# Altium footprint library EIA.SO.PcbLib: 20 footprints (part 1 of 2)
Each footprint in its own frame and in the unit in brackets; x right, y up, seen from the top. Pads: shape width x height; smd on the part's side, far side on the other; paste and mask are expansions set on the pad; w line width, h text height; cw(c..) or ccw(c..) is an arc to the next point about the centre after c.
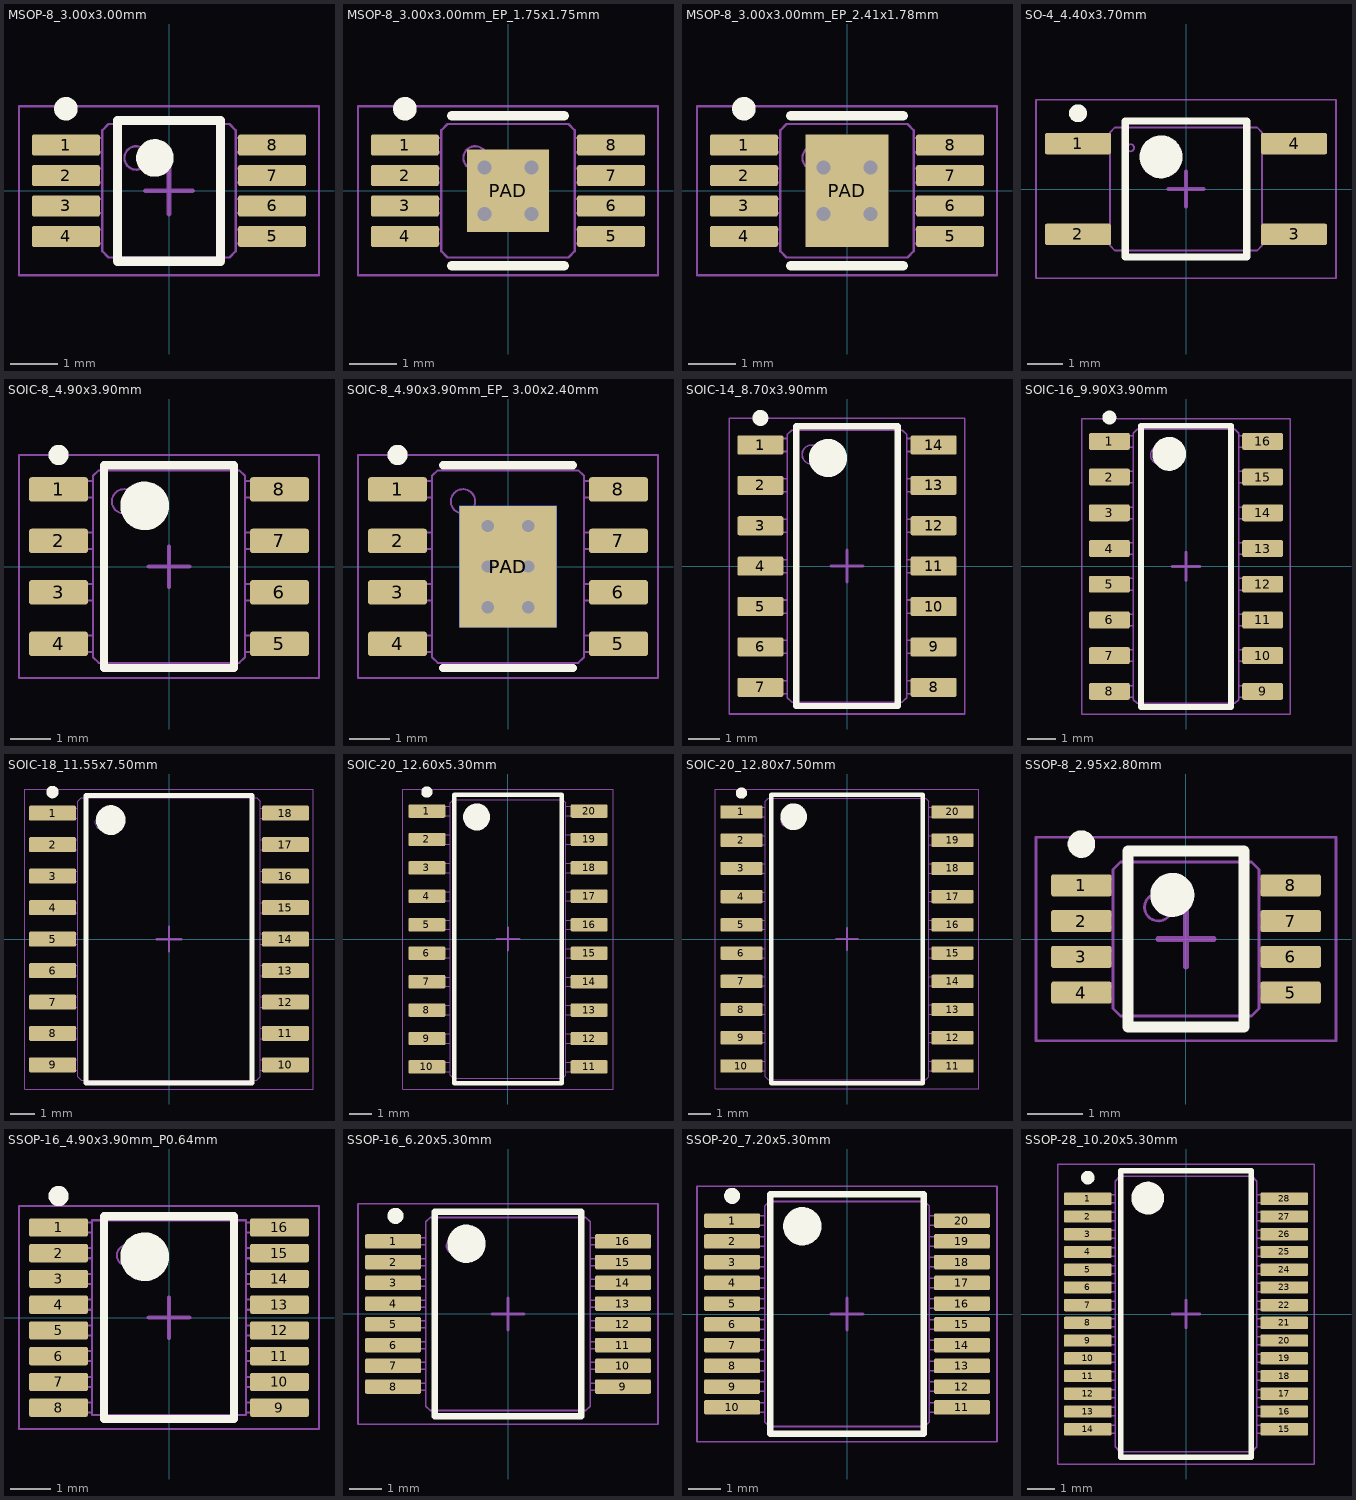
[diagram p0: the footprints below, top view; thin cyan lines are the x and y axes]

## MSOP-8_3.00x3.00mm [mm] "MSOP, 8-Leads, Body 3.00x3.00mm, Pitch 0.65mm, IPC Medium Density"
height 1.1
pads (8):
  rrect20% 1.45x0.45 smd: 1(-2.2,0.975) 2(-2.2,0.325) 3(-2.2,-0.325) 4(-2.2,-0.975) 5(2.2,-0.975) 6(2.2,-0.325) 7(2.2,0.325) 8(2.2,0.975)
Top Overlay:
  circle w0.25: c-2.2,1.75 r0.125
  circle w0.4: c-0.3,0.7 r0.2
  lines w0.2: -1.1,-1.5 -1.1,1.5 1.1,1.5 1.1,-1.5 -1.1,-1.5
Mechanical 1:
  circle w0.05: c-0.701,0.701 r0.25
  lines w0.05: -1.425,-1.125 -2.45,-1.125 -2.45,-0.825 -1.425,-0.825 ; -1.425,-0.475 -2.45,-0.475 -2.45,-0.175 -1.425,-0.175 ; -1.425,0.175 -2.45,0.175 -2.45,0.475 -1.425,0.475 ; -1.425,0.825 -2.45,0.825 -2.45,1.125 -1.425,1.125 ; 1.425,-1.125 2.45,-1.125 2.45,-0.825 1.425,-0.825 ; 1.425,-0.475 2.45,-0.475 2.45,-0.175 1.425,-0.175 ; 1.425,0.175 2.45,0.175 2.45,0.475 1.425,0.475 ; 1.425,0.825 2.45,0.825 2.45,1.125 1.425,1.125 ; -1.425,-1.288 -1.425,1.288 -1.288,1.425 1.288,1.425 1.425,1.288 1.425,-1.288 1.288,-1.425 -1.288,-1.425 -1.425,-1.288
Mechanical 15:
  lines w0.05: -3.2,-1.8 -3.2,1.8 3.2,1.8 3.2,-1.8 -3.2,-1.8
  lines w0.1: -0.5,0 0.5,0 ; 0,-0.5 0,0.5
3D body "MSOP-8_3x3mm_P0.65mm.step": height 0.95, standoff 0, extent -2.45,-1.5 2.45,1.5

## MSOP-8_3.00x3.00mm_EP_1.75x1.75mm [mm] "MSOP, 8-Leads, Body 3.00x3.00mm, Pitch 0.65mm, Thermal Pad 1.75x1.75mm, IPC Medium Density"
height 1.1
pads (9):
  rrect20% 1.45x0.45 smd: 1(-2.2,0.975) 2(-2.2,0.325) 3(-2.2,-0.325) 4(-2.2,-0.975) 5(2.2,-0.975) 6(2.2,-0.325) 7(2.2,0.325) 8(2.2,0.975)
  rect 1.75x1.75 smd: PAD(0,0)
via 0.5,0.5 diameter 0.6 hole 0.3
via -0.5,0.5 diameter 0.6 hole 0.3
via -0.5,-0.5 diameter 0.6 hole 0.3
via 0.5,-0.5 diameter 0.6 hole 0.3
Top Overlay:
  circle w0.25: c-2.2,1.75 r0.125
  lines w0.2: -1.2,-1.6 1.2,-1.6 ; -1.2,1.6 1.2,1.6
Mechanical 1:
  circle w0.05: c-0.701,0.701 r0.25
  lines w0.05: -1.425,-1.125 -2.45,-1.125 -2.45,-0.825 -1.425,-0.825 ; -1.425,-0.475 -2.45,-0.475 -2.45,-0.175 -1.425,-0.175 ; -1.425,0.175 -2.45,0.175 -2.45,0.475 -1.425,0.475 ; -1.425,0.825 -2.45,0.825 -2.45,1.125 -1.425,1.125 ; 1.425,-1.125 2.45,-1.125 2.45,-0.825 1.425,-0.825 ; 1.425,-0.475 2.45,-0.475 2.45,-0.175 1.425,-0.175 ; 1.425,0.175 2.45,0.175 2.45,0.475 1.425,0.475 ; 1.425,0.825 2.45,0.825 2.45,1.125 1.425,1.125 ; -1.425,-1.288 -1.288,-1.425 1.288,-1.425 1.425,-1.288 1.425,1.288 1.288,1.425 -1.288,1.425 -1.425,1.288 -1.425,-1.288
Mechanical 15:
  lines w0.05: -3.2,-1.8 3.2,-1.8 3.2,1.8 -3.2,1.8 -3.2,-1.8
  lines w0.1: -0.5,0 0.5,0 ; 0,-0.5 0,0.5
3D body "MSOP-8-1EP_3x3mm_P0.65mm_EP1.68x1.88mm.step": height 0.95, standoff 0, extent -2.45,-1.5 2.45,1.5

## MSOP-8_3.00x3.00mm_EP_2.41x1.78mm [mm] "MSOP, 8-Leads, Body 3.00x3.00mm, Pitch 0.65mm, Thermal Pad 2.41x1.78mm, IPC Medium Density"
height 1.1
pads (9):
  rrect20% 1.45x0.45 smd: 1(-2.2,0.975) 2(-2.2,0.325) 3(-2.2,-0.325) 4(-2.2,-0.975) 5(2.2,-0.975) 6(2.2,-0.325) 7(2.2,0.325) 8(2.2,0.975)
  rect 1.78x2.41 smd: PAD(0,0)
via 0.5,0.5 diameter 0.6 hole 0.3
via -0.5,0.5 diameter 0.6 hole 0.3
via -0.5,-0.5 diameter 0.6 hole 0.3
via 0.5,-0.5 diameter 0.6 hole 0.3
Top Overlay:
  circle w0.25: c-2.2,1.75 r0.125
  lines w0.2: -1.2,-1.6 1.2,-1.6 ; -1.2,1.6 1.2,1.6
Mechanical 1:
  circle w0.05: c-0.701,0.701 r0.25
  lines w0.05: -1.425,-1.125 -2.45,-1.125 -2.45,-0.825 -1.425,-0.825 ; -1.425,-0.475 -2.45,-0.475 -2.45,-0.175 -1.425,-0.175 ; -1.425,0.175 -2.45,0.175 -2.45,0.475 -1.425,0.475 ; -1.425,0.825 -2.45,0.825 -2.45,1.125 -1.425,1.125 ; 1.425,-1.125 2.45,-1.125 2.45,-0.825 1.425,-0.825 ; 1.425,-0.475 2.45,-0.475 2.45,-0.175 1.425,-0.175 ; 1.425,0.175 2.45,0.175 2.45,0.475 1.425,0.475 ; 1.425,0.825 2.45,0.825 2.45,1.125 1.425,1.125 ; -1.425,-1.288 -1.288,-1.425 1.288,-1.425 1.425,-1.288 1.425,1.288 1.288,1.425 -1.288,1.425 -1.425,1.288 -1.425,-1.288
Mechanical 15:
  lines w0.05: -3.2,-1.8 3.2,-1.8 3.2,1.8 -3.2,1.8 -3.2,-1.8
  lines w0.1: -0.5,0 0.5,0 ; 0,-0.5 0,0.5
3D body "MSOP-8-1EP_3x3mm_P0.65mm_EP1.68x1.88mm.step": height 0.95, standoff 0, extent -2.45,-1.5 2.45,1.5

## SO-4_4.40x3.70mm [mm] "SO, 4-Leads, Body 4.40x3.70mm, Pitch 2.54mm, IPC Medium Density"
height 2.31
pads (4):
  rrect20% 1.85x0.6 smd: 1(-3.025,1.27) 2(-3.025,-1.27) 3(3.025,-1.27) 4(3.025,1.27)
Top Overlay:
  circle w0.25: c-3.025,2.12 r0.125
  circle w0.6: c-0.7,0.9 r0.3
  lines w0.2: -1.7,-1.9 -1.7,1.9 1.7,1.9 1.7,-1.9 -1.7,-1.9
Mechanical 1:
  circle w0.05: c-1.554,1.154 r0.1
  lines w0.05: -2.125,-1.495 -3.65,-1.495 -3.65,-1.045 -2.125,-1.045 ; -2.125,1.045 -3.65,1.045 -3.65,1.495 -2.125,1.495 ; 2.125,-1.495 3.65,-1.495 3.65,-1.045 2.125,-1.045 ; 2.125,1.045 3.65,1.045 3.65,1.495 2.125,1.495 ; -2.125,-1.587 -2.125,1.587 -1.987,1.725 1.987,1.725 2.125,1.587 2.125,-1.587 1.987,-1.725 -1.987,-1.725 -2.125,-1.587
Mechanical 15:
  lines w0.05: -4.2,-2.5 -4.2,2.5 4.2,2.5 4.2,-2.5 -4.2,-2.5
  lines w0.1: -0.5,0 0.5,0 ; 0,-0.5 0,0.5
3D body "SO-4_4.4x3.6mm_P2.54mm.step": height 1.1, standoff 0, extent -3.65,-1.8 3.65,1.8

## SOIC-8_4.90x3.90mm [mm] "SOIC, 8-Leads, Body 4.90x3.90mm, Pitch 1.27mm, IPC Medium Density"
height 1.75
pads (8):
  rrect20% 1.45x0.6 smd: 1(-2.725,1.905) 2(-2.725,0.635) 3(-2.725,-0.635) 4(-2.725,-1.905) 5(2.725,-1.905) 6(2.725,-0.635) 7(2.725,0.635) 8(2.725,1.905)
Top Overlay:
  circle w0.25: c-2.725,2.755 r0.125
  circle w0.6: c-0.6,1.5 r0.3
  lines w0.2: -1.6,-2.5 -1.6,2.5 1.6,2.5 1.6,-2.5 -1.6,-2.5
Mechanical 1:
  circle w0.05: c-1.11,1.61 r0.3
  lines w0.05: -1.875,-2.11 -3,-2.11 -3,-1.7 -1.875,-1.7 ; -1.875,-0.84 -3,-0.84 -3,-0.43 -1.875,-0.43 ; -1.875,0.43 -3,0.43 -3,0.84 -1.875,0.84 ; -1.875,1.7 -3,1.7 -3,2.11 -1.875,2.11 ; 1.875,-2.11 3,-2.11 3,-1.7 1.875,-1.7 ; 1.875,-0.84 3,-0.84 3,-0.43 1.875,-0.43 ; 1.875,0.43 3,0.43 3,0.84 1.875,0.84 ; 1.875,1.7 3,1.7 3,2.11 1.875,2.11 ; -1.875,-2.238 -1.875,2.238 -1.737,2.375 1.737,2.375 1.875,2.238 1.875,-2.238 1.737,-2.375 -1.737,-2.375 -1.875,-2.238
Mechanical 15:
  lines w0.05: -3.7,-2.75 -3.7,2.75 3.7,2.75 3.7,-2.75 -3.7,-2.75
  lines w0.1: -0.5,0 0.5,0 ; 0,-0.5 0,0.5
3D body "SOIC-8_3.9x4.9mm_P1.27mm.step": height 1.75, standoff 0, extent -3,-2.45 3,2.45

## SOIC-8_4.90x3.90mm_EP_ 3.00x2.40mm [mm] "SOIC, 8-Leads, Body 4.90x3.90mm, Pitch 1.27mm, Thermal Pad 3.00x2.40mm, IPC Medium Density"
height 1.75
pads (10):
  rrect20% 1.45x0.6 smd: 1(-2.725,1.905) 2(-2.725,0.635) 3(-2.725,-0.635) 4(-2.725,-1.905) 5(2.725,-1.905) 6(2.725,-0.635) 7(2.725,0.635) 8(2.725,1.905)
  rect 2.4x3 smd: PAD(0,0)
  rect 2.4x3 smd far side paste-2539.97: PAD(0,0)
via -0.5,1 diameter 0.6 hole 0.3
via -0.5,0 diameter 0.6 hole 0.3
via -0.5,-1 diameter 0.6 hole 0.3
via 0.5,-1 diameter 0.6 hole 0.3
via 0.5,1 diameter 0.6 hole 0.3
via 0.5,0 diameter 0.6 hole 0.3
Top Overlay:
  circle w0.25: c-2.725,2.755 r0.125
  lines w0.2: -1.6,-2.5 1.6,-2.5 ; -1.6,2.5 1.6,2.5
Mechanical 1:
  circle w0.05: c-1.11,1.61 r0.3
  lines w0.05: -1.875,-2.11 -3,-2.11 -3,-1.7 -1.875,-1.7 ; -1.875,-0.84 -3,-0.84 -3,-0.43 -1.875,-0.43 ; -1.875,0.43 -3,0.43 -3,0.84 -1.875,0.84 ; -1.875,1.7 -3,1.7 -3,2.11 -1.875,2.11 ; 1.875,-2.11 3,-2.11 3,-1.7 1.875,-1.7 ; 1.875,-0.84 3,-0.84 3,-0.43 1.875,-0.43 ; 1.875,0.43 3,0.43 3,0.84 1.875,0.84 ; 1.875,1.7 3,1.7 3,2.11 1.875,2.11 ; -1.875,-2.238 -1.875,2.238 -1.737,2.375 1.737,2.375 1.875,2.238 1.875,-2.238 1.737,-2.375 -1.737,-2.375 -1.875,-2.238
Mechanical 15:
  lines w0.05: -3.7,-2.75 -3.7,2.75 3.7,2.75 3.7,-2.75 -3.7,-2.75
  lines w0.1: -0.5,0 0.5,0 ; 0,-0.5 0,0.5
3D body "SOIC-8-1EP_3.9x4.9mm_P1.27mm_EP2.35x2.35mm.step": height 1.75, standoff 0, extent -3,-2.45 3,2.45

## SOIC-14_8.70x3.90mm [mm] "SOIC 14-Leads, Body 8.70x3.90mm, Pitch 1.27mm, IPC Medium Density"
height 1.75
pads (14):
  rrect20% 1.45x0.6 smd: 1(-2.725,3.81) 2(-2.725,2.54) 3(-2.725,1.27) 4(-2.725,0) 5(-2.725,-1.27) 6(-2.725,-2.54) 7(-2.725,-3.81) 8(2.725,-3.81) 9(2.725,-2.54) 10(2.725,-1.27) 11(2.725,0) 12(2.725,1.27) 13(2.725,2.54) 14(2.725,3.81)
Top Overlay:
  circle w0.25: c-2.725,4.66 r0.125
  circle w0.6: c-0.6,3.4 r0.3
  lines w0.2: -1.6,-4.4 1.6,-4.4 1.6,4.4 -1.6,4.4 -1.6,-4.4
Mechanical 1:
  circle w0.05: c-1.11,3.51 r0.3
  lines w0.05: -1.875,-4.015 -3,-4.015 -3,-3.605 -1.875,-3.605 ; -1.875,-2.745 -3,-2.745 -3,-2.335 -1.875,-2.335 ; -1.875,-1.475 -3,-1.475 -3,-1.065 -1.875,-1.065 ; -1.875,-0.205 -3,-0.205 -3,0.205 -1.875,0.205 ; -1.875,1.065 -3,1.065 -3,1.475 -1.875,1.475 ; -1.875,2.335 -3,2.335 -3,2.745 -1.875,2.745 ; -1.875,3.605 -3,3.605 -3,4.015 -1.875,4.015 ; 1.875,-4.015 3,-4.015 3,-3.605 1.875,-3.605 ; 1.875,-2.745 3,-2.745 3,-2.335 1.875,-2.335 ; 1.875,-1.475 3,-1.475 3,-1.065 1.875,-1.065 ; 1.875,-0.205 3,-0.205 3,0.205 1.875,0.205 ; 1.875,1.065 3,1.065 3,1.475 1.875,1.475 ; 1.875,2.335 3,2.335 3,2.745 1.875,2.745 ; 1.875,3.605 3,3.605 3,4.015 1.875,4.015 ; -1.875,-4.137 -1.737,-4.275 1.737,-4.275 1.875,-4.137 1.875,4.137 1.737,4.275 -1.737,4.275 -1.875,4.137 -1.875,-4.137
Mechanical 15:
  lines w0.05: -3.7,-4.65 -3.7,4.65 3.7,4.65 3.7,-4.65 -3.7,-4.65
  lines w0.1: -0.5,0 0.5,0 ; 0,-0.5 0,0.5
3D body "SOIC-14_3.9x8.7mm_P1.27mm.step": height 1.75, standoff 0, extent -3,-4.35 3,4.35

## SOIC-16_9.90X3.90mm [mm] "SOIC, 16-Leads, Body 9.90x3.90mm, Pitch 1.27mm, IPC Medium Density"
height 1.75
pads (16):
  rrect20% 1.45x0.6 smd: 1(-2.725,4.445) 2(-2.725,3.175) 3(-2.725,1.905) 4(-2.725,0.635) 5(-2.725,-0.635) 6(-2.725,-1.905) 7(-2.725,-3.175) 8(-2.725,-4.445) 9(2.725,-4.445) 10(2.725,-3.175) 11(2.725,-1.905) 12(2.725,-0.635) 13(2.725,0.635) 14(2.725,1.905) 15(2.725,3.175) 16(2.725,4.445)
Top Overlay:
  circle w0.25: c-2.725,5.295 r0.125
  circle w0.6: c-0.6,4 r0.3
  lines w0.2: -1.6,-5 -1.6,5 1.6,5 1.6,-5 -1.6,-5
Mechanical 1:
  circle w0.05: c-0.96,3.96 r0.3
  lines w0.05: -1.875,-4.65 -3,-4.65 -3,-4.24 -1.875,-4.24 ; -1.875,-3.38 -3,-3.38 -3,-2.97 -1.875,-2.97 ; -1.875,-2.11 -3,-2.11 -3,-1.7 -1.875,-1.7 ; -1.875,-0.84 -3,-0.84 -3,-0.43 -1.875,-0.43 ; -1.875,0.43 -3,0.43 -3,0.84 -1.875,0.84 ; -1.875,1.7 -3,1.7 -3,2.11 -1.875,2.11 ; -1.875,2.97 -3,2.97 -3,3.38 -1.875,3.38 ; -1.875,4.24 -3,4.24 -3,4.65 -1.875,4.65 ; 1.875,-4.65 3,-4.65 3,-4.24 1.875,-4.24 ; 1.875,-3.38 3,-3.38 3,-2.97 1.875,-2.97 ; 1.875,-2.11 3,-2.11 3,-1.7 1.875,-1.7 ; 1.875,-0.84 3,-0.84 3,-0.43 1.875,-0.43 ; 1.875,0.43 3,0.43 3,0.84 1.875,0.84 ; 1.875,1.7 3,1.7 3,2.11 1.875,2.11 ; 1.875,2.97 3,2.97 3,3.38 1.875,3.38 ; 1.875,4.24 3,4.24 3,4.65 1.875,4.65 ; -1.875,-4.737 -1.737,-4.875 1.737,-4.875 1.875,-4.737 1.875,4.737 1.737,4.875 -1.737,4.875 -1.875,4.737 -1.875,-4.737
Mechanical 15:
  lines w0.05: -3.7,-5.25 -3.7,5.25 3.7,5.25 3.7,-5.25 -3.7,-5.25
  lines w0.1: -0.5,0 0.5,0 ; 0,-0.5 0,0.5
3D body "SOIC-16_3.9x9.9mm_P1.27mm.step": height 1.75, standoff 0, extent -3,-4.95 3,4.95

## SOIC-18_11.55x7.50mm [mm] "SOIC, 18-Leads, Body 11.55x7.50mm, Pitch 1.27mm, IPC Medium Density"
height 2.65
pads (18):
  rrect20% 1.9x0.6 smd: 1(-4.7,5.08) 2(-4.7,3.81) 3(-4.7,2.54) 4(-4.7,1.27) 5(-4.7,0) 6(-4.7,-1.27) 7(-4.7,-2.54) 8(-4.7,-3.81) 9(-4.7,-5.08) 10(4.7,-5.08) 11(4.7,-3.81) 12(4.7,-2.54) 13(4.7,-1.27) 14(4.7,0) 15(4.7,1.27) 16(4.7,2.54) 17(4.7,3.81) 18(4.7,5.08)
Top Overlay:
  circle w0.6: c-2.35,4.8 r0.3
  circle w0.25: c-4.7,5.93 r0.125
  lines w0.2: -3.35,-5.8 3.35,-5.8 3.35,5.8 -3.35,5.8 -3.35,-5.8
Mechanical 1:
  circle w0.05: c-2.689,4.714 r0.3
  lines w0.05: -3.675,-5.285 -5.15,-5.285 -5.15,-4.875 -3.675,-4.875 ; -3.675,-4.015 -5.15,-4.015 -5.15,-3.605 -3.675,-3.605 ; -3.675,-2.745 -5.15,-2.745 -5.15,-2.335 -3.675,-2.335 ; -3.675,-1.475 -5.15,-1.475 -5.15,-1.065 -3.675,-1.065 ; -3.675,-0.205 -5.15,-0.205 -5.15,0.205 -3.675,0.205 ; -3.675,1.065 -5.15,1.065 -5.15,1.475 -3.675,1.475 ; -3.675,2.335 -5.15,2.335 -5.15,2.745 -3.675,2.745 ; -3.675,3.605 -5.15,3.605 -5.15,4.015 -3.675,4.015 ; -3.675,4.875 -5.15,4.875 -5.15,5.285 -3.675,5.285 ; 3.675,-5.285 5.15,-5.285 5.15,-4.875 3.675,-4.875 ; 3.675,-4.015 5.15,-4.015 5.15,-3.605 3.675,-3.605 ; 3.675,-2.745 5.15,-2.745 5.15,-2.335 3.675,-2.335 ; 3.675,-1.475 5.15,-1.475 5.15,-1.065 3.675,-1.065 ; 3.675,-0.205 5.15,-0.205 5.15,0.205 3.675,0.205 ; 3.675,1.065 5.15,1.065 5.15,1.475 3.675,1.475 ; 3.675,2.335 5.15,2.335 5.15,2.745 3.675,2.745 ; 3.675,3.605 5.15,3.605 5.15,4.015 3.675,4.015 ; 3.675,4.875 5.15,4.875 5.15,5.285 3.675,5.285 ; -3.675,-5.563 -3.675,5.563 -3.538,5.7 3.538,5.7 3.675,5.563 3.675,-5.563 3.538,-5.7 -3.538,-5.7 -3.675,-5.563
Mechanical 15:
  lines w0.05: -5.825,-6.05 5.825,-6.05 5.825,6.05 -5.825,6.05 -5.825,-6.05
  lines w0.1: -0.5,0 0.5,0 ; 0,-0.5 0,0.5
3D body "SOIC-18W_7.5x11.6mm_P1.27mm.step": height 2.75, standoff 0, extent -5.15,-5.775 5.15,5.775

## SOIC-20_12.60x5.30mm [mm] "SOIC, 20-Leads, Body 12.60x5.30mm, Pitch 1.27mm, IPC Medium Density"
height 2
pads (20):
  rrect20% 1.65x0.6 smd: 1(-3.625,5.715) 2(-3.625,4.445) 3(-3.625,3.175) 4(-3.625,1.905) 5(-3.625,0.635) 6(-3.625,-0.635) 7(-3.625,-1.905) 8(-3.625,-3.175) 9(-3.625,-4.445) 10(-3.625,-5.715) 11(3.625,-5.715) 12(3.625,-4.445) 13(3.625,-3.175) 14(3.625,-1.905) 15(3.625,-0.635) 16(3.625,0.635) 17(3.625,1.905) 18(3.625,3.175) 19(3.625,4.445) 20(3.625,5.715)
Top Overlay:
  circle w0.6: c-1.4,5.45 r0.3
  circle w0.25: c-3.625,6.565 r0.125
  lines w0.2: -2.4,-6.45 2.4,-6.45 2.4,6.45 -2.4,6.45 -2.4,-6.45
Mechanical 1:
  circle w0.05: c-1.66,5.31 r0.3
  lines w0.05: -2.575,-5.92 -3.7,-5.92 -3.7,-5.51 -2.575,-5.51 ; -2.575,-4.65 -3.7,-4.65 -3.7,-4.24 -2.575,-4.24 ; -2.575,-3.38 -3.7,-3.38 -3.7,-2.97 -2.575,-2.97 ; -2.575,-2.11 -3.7,-2.11 -3.7,-1.7 -2.575,-1.7 ; -2.575,-0.84 -3.7,-0.84 -3.7,-0.43 -2.575,-0.43 ; -2.575,0.43 -3.7,0.43 -3.7,0.84 -2.575,0.84 ; -2.575,1.7 -3.7,1.7 -3.7,2.11 -2.575,2.11 ; -2.575,2.97 -3.7,2.97 -3.7,3.38 -2.575,3.38 ; -2.575,4.24 -3.7,4.24 -3.7,4.65 -2.575,4.65 ; -2.575,5.51 -3.7,5.51 -3.7,5.92 -2.575,5.92 ; 2.575,-5.92 3.7,-5.92 3.7,-5.51 2.575,-5.51 ; 2.575,-4.65 3.7,-4.65 3.7,-4.24 2.575,-4.24 ; 2.575,-3.38 3.7,-3.38 3.7,-2.97 2.575,-2.97 ; 2.575,-2.11 3.7,-2.11 3.7,-1.7 2.575,-1.7 ; 2.575,-0.84 3.7,-0.84 3.7,-0.43 2.575,-0.43 ; 2.575,0.43 3.7,0.43 3.7,0.84 2.575,0.84 ; 2.575,1.7 3.7,1.7 3.7,2.11 2.575,2.11 ; 2.575,2.97 3.7,2.97 3.7,3.38 2.575,3.38 ; 2.575,4.24 3.7,4.24 3.7,4.65 2.575,4.65 ; 2.575,5.51 3.7,5.51 3.7,5.92 2.575,5.92 ; -2.575,-6.088 -2.575,6.088 -2.438,6.225 2.438,6.225 2.575,6.088 2.575,-6.088 2.438,-6.225 -2.438,-6.225 -2.575,-6.088
Mechanical 15:
  lines w0.05: -4.7,-6.7 4.7,-6.7 4.7,6.7 -4.7,6.7 -4.7,-6.7
  lines w0.1: -0.5,0 0.5,0 ; 0,-0.5 0,0.5
3D body "SOIC-20_5.3x12.6mm_P1.27mm.STEP": height 1.75, standoff 0, extent -3.7,-6.3 3.7,6.3

## SOIC-20_12.80x7.50mm [mm] "SOIC, 20-Leads, Body 12.80x7.50mm, Pitch 1.27mm, IPC Medium Density"
height 2.65
pads (20):
  rrect20% 1.9x0.6 smd: 1(-4.75,5.715) 2(-4.75,4.445) 3(-4.75,3.175) 4(-4.75,1.905) 5(-4.75,0.635) 6(-4.75,-0.635) 7(-4.75,-1.905) 8(-4.75,-3.175) 9(-4.75,-4.445) 10(-4.75,-5.715) 11(4.75,-5.715) 12(4.75,-4.445) 13(4.75,-3.175) 14(4.75,-1.905) 15(4.75,-0.635) 16(4.75,0.635) 17(4.75,1.905) 18(4.75,3.175) 19(4.75,4.445) 20(4.75,5.715)
Top Overlay:
  circle w0.6: c-2.4,5.5 r0.3
  circle w0.25: c-4.75,6.565 r0.125
  lines w0.2: -3.4,-6.5 3.4,-6.5 3.4,6.5 -3.4,6.5 -3.4,-6.5
Mechanical 1:
  circle w0.025: c-2.689,5.339 r0.3
  lines w0.05: -3.675,-5.92 -5.15,-5.92 -5.15,-5.51 -3.675,-5.51 ; -3.675,-4.65 -5.15,-4.65 -5.15,-4.24 -3.675,-4.24 ; -3.675,-3.38 -5.15,-3.38 -5.15,-2.97 -3.675,-2.97 ; -3.675,-2.11 -5.15,-2.11 -5.15,-1.7 -3.675,-1.7 ; -3.675,-0.84 -5.15,-0.84 -5.15,-0.43 -3.675,-0.43 ; -3.675,0.43 -5.15,0.43 -5.15,0.84 -3.675,0.84 ; -3.675,1.7 -5.15,1.7 -5.15,2.11 -3.675,2.11 ; -3.675,2.97 -5.15,2.97 -5.15,3.38 -3.675,3.38 ; -3.675,4.24 -5.15,4.24 -5.15,4.65 -3.675,4.65 ; -3.675,5.51 -5.15,5.51 -5.15,5.92 -3.675,5.92 ; 3.675,-5.92 5.15,-5.92 5.15,-5.51 3.675,-5.51 ; 3.675,-4.65 5.15,-4.65 5.15,-4.24 3.675,-4.24 ; 3.675,-3.38 5.15,-3.38 5.15,-2.97 3.675,-2.97 ; 3.675,-2.11 5.15,-2.11 5.15,-1.7 3.675,-1.7 ; 3.675,-0.84 5.15,-0.84 5.15,-0.43 3.675,-0.43 ; 3.675,0.43 5.15,0.43 5.15,0.84 3.675,0.84 ; 3.675,1.7 5.15,1.7 5.15,2.11 3.675,2.11 ; 3.675,2.97 5.15,2.97 5.15,3.38 3.675,3.38 ; 3.675,4.24 5.15,4.24 5.15,4.65 3.675,4.65 ; 3.675,5.51 5.15,5.51 5.15,5.92 3.675,5.92 ; -3.675,-6.188 -3.675,6.188 -3.538,6.325 3.538,6.325 3.675,6.188 3.675,-6.188 3.538,-6.325 -3.538,-6.325 -3.675,-6.188
Mechanical 15:
  lines w0.05: -5.925,-6.75 5.925,-6.75 5.925,6.75 -5.925,6.75 -5.925,-6.75
  lines w0.1: -0.5,0 0.5,0 ; 0,-0.5 0,0.5
3D body "SOIC-20W_7.5x12.8mm_P1.27mm.step": height 2.75, standoff 0, extent -5.15,-6.4 5.15,6.4

## SSOP-8_2.95x2.80mm [mm] "SSOP, 8-Leads, Body 2.95x2.80mm, Pitch 0.65mm, IPC Medium Density"
height 1.3
pads (8):
  rrect20% 1.1x0.4 smd: 1(-1.9,0.975) 2(-1.9,0.325) 3(-1.9,-0.325) 4(-1.9,-0.975) 5(1.9,-0.975) 6(1.9,-0.325) 7(1.9,0.325) 8(1.9,0.975)
Top Overlay:
  circle w0.25: c-1.9,1.725 r0.125
  circle w0.4: c-0.25,0.8 r0.2
  lines w0.2: -1.05,-1.6 -1.05,1.6 1.05,1.6 1.05,-1.6 -1.05,-1.6
Mechanical 1:
  circle w0.05: c-0.503,0.578 r0.25
  lines w0.05: -1.325,-1.085 -2,-1.085 -2,-0.865 -1.325,-0.865 ; -1.325,-0.435 -2,-0.435 -2,-0.215 -1.325,-0.215 ; -1.325,0.215 -2,0.215 -2,0.435 -1.325,0.435 ; -1.325,0.865 -2,0.865 -2,1.085 -1.325,1.085 ; 1.325,-1.085 2,-1.085 2,-0.865 1.325,-0.865 ; 1.325,-0.435 2,-0.435 2,-0.215 1.325,-0.215 ; 1.325,0.215 2,0.215 2,0.435 1.325,0.435 ; 1.325,0.865 2,0.865 2,1.085 1.325,1.085 ; -1.325,-1.262 -1.188,-1.4 1.188,-1.4 1.325,-1.262 1.325,1.262 1.188,1.4 -1.188,1.4 -1.325,1.262 -1.325,-1.262
Mechanical 15:
  lines w0.05: -2.725,-1.85 -2.725,1.85 2.725,1.85 2.725,-1.85 -2.725,-1.85
  lines w0.1: -0.5,0 0.5,0 ; 0,-0.5 0,0.5
3D body "SSOP-8_2.95x2.8mm_P0.65mm.step": height 1.35, standoff 0, extent -2,-1.475 2,1.475

## SSOP-16_4.90x3.90mm_P0.64mm [mm] "SSOP, 16-Leads, Body 4.90x3.90mm, Pitch 0.64mm, IPC Medium Density"
height 1.75
pads (16):
  rrect20% 1.45x0.45 smd: 1(-2.725,2.222) 2(-2.725,1.587) 3(-2.725,0.953) 4(-2.725,0.318) 5(-2.725,-0.318) 6(-2.725,-0.953) 7(-2.725,-1.587) 8(-2.725,-2.222) 9(2.725,-2.222) 10(2.725,-1.587) 11(2.725,-0.953) 12(2.725,-0.318) 13(2.725,0.318) 14(2.725,0.953) 15(2.725,1.587) 16(2.725,2.222)
Top Overlay:
  circle w0.25: c-2.725,2.997 r0.125
  circle w0.6: c-0.6,1.5 r0.3
  lines w0.2: -1.6,-2.5 -1.6,2.5 1.6,2.5 1.6,-2.5 -1.6,-2.5
Mechanical 1:
  circle w0.05: c-1.035,1.535 r0.25
  lines w0.05: -1.9,-2.348 -3,-2.348 -3,-2.097 -1.9,-2.097 ; -1.9,-1.713 -3,-1.713 -3,-1.462 -1.9,-1.462 ; -1.9,-1.078 -3,-1.078 -3,-0.827 -1.9,-0.827 ; -1.9,-0.443 -3,-0.443 -3,-0.192 -1.9,-0.192 ; -1.9,0.192 -3,0.192 -3,0.443 -1.9,0.443 ; -1.9,0.827 -3,0.827 -3,1.078 -1.9,1.078 ; -1.9,1.462 -3,1.462 -3,1.713 -1.9,1.713 ; -1.9,2.097 -3,2.097 -3,2.348 -1.9,2.348 ; 1.9,-2.348 3,-2.348 3,-2.097 1.9,-2.097 ; 1.9,-1.713 3,-1.713 3,-1.462 1.9,-1.462 ; 1.9,-1.078 3,-1.078 3,-0.827 1.9,-0.827 ; 1.9,-0.443 3,-0.443 3,-0.192 1.9,-0.192 ; 1.9,0.192 3,0.192 3,0.443 1.9,0.443 ; 1.9,0.827 3,0.827 3,1.078 1.9,1.078 ; 1.9,1.462 3,1.462 3,1.713 1.9,1.713 ; 1.9,2.097 3,2.097 3,2.348 1.9,2.348 ; -1.9,-2.4 1.9,-2.4 1.9,2.4 -1.9,2.4 -1.9,-2.4
Mechanical 15:
  lines w0.05: -3.7,-2.75 -3.7,2.75 3.7,2.75 3.7,-2.75 -3.7,-2.75
  lines w0.1: -0.5,0 0.5,0 ; 0,-0.5 0,0.5
3D body "SSOP-16_3.9x4.9mm_P0.635mm.step": height 1.85, standoff 0, extent -3,-2.45 3,2.45

## SSOP-16_6.20x5.30mm [mm] "SSOP, 16-Leads, Body 6.20x5.30mm, Pitch 0.65mm, IPC Medium Density"
height 2
pads (16):
  rrect20% 1.75x0.45 smd: 1(-3.6,2.275) 2(-3.6,1.625) 3(-3.6,0.975) 4(-3.6,0.325) 5(-3.6,-0.325) 6(-3.6,-0.975) 7(-3.6,-1.625) 8(-3.6,-2.275) 9(3.6,-2.275) 10(3.6,-1.625) 11(3.6,-0.975) 12(3.6,-0.325) 13(3.6,0.325) 14(3.6,0.975) 15(3.6,1.625) 16(3.6,2.275)
Top Overlay:
  circle w0.25: c-3.525,3.075 r0.125
  circle w0.6: c-1.3,2.2 r0.3
  lines w0.2: -2.3,-3.2 -2.3,3.2 2.3,3.2 2.3,-3.2 -2.3,-3.2
Mechanical 1:
  circle w0.05: c-1.681,2.131 r0.25
  lines w0.05: -2.575,-2.385 -3.9,-2.385 -3.9,-2.165 -2.575,-2.165 ; -2.575,-1.735 -3.9,-1.735 -3.9,-1.515 -2.575,-1.515 ; -2.575,-1.085 -3.9,-1.085 -3.9,-0.865 -2.575,-0.865 ; -2.575,-0.435 -3.9,-0.435 -3.9,-0.215 -2.575,-0.215 ; -2.575,0.215 -3.9,0.215 -3.9,0.435 -2.575,0.435 ; -2.575,0.865 -3.9,0.865 -3.9,1.085 -2.575,1.085 ; -2.575,1.515 -3.9,1.515 -3.9,1.735 -2.575,1.735 ; -2.575,2.165 -3.9,2.165 -3.9,2.385 -2.575,2.385 ; 2.575,-2.385 3.9,-2.385 3.9,-2.165 2.575,-2.165 ; 2.575,-1.735 3.9,-1.735 3.9,-1.515 2.575,-1.515 ; 2.575,-1.085 3.9,-1.085 3.9,-0.865 2.575,-0.865 ; 2.575,-0.435 3.9,-0.435 3.9,-0.215 2.575,-0.215 ; 2.575,0.215 3.9,0.215 3.9,0.435 2.575,0.435 ; 2.575,0.865 3.9,0.865 3.9,1.085 2.575,1.085 ; 2.575,1.515 3.9,1.515 3.9,1.735 2.575,1.735 ; 2.575,2.165 3.9,2.165 3.9,2.385 2.575,2.385 ; -2.575,-2.887 -2.575,2.887 -2.438,3.025 2.438,3.025 2.575,2.887 2.575,-2.887 2.438,-3.025 -2.438,-3.025 -2.575,-2.887
Mechanical 15:
  lines w0.05: -4.7,-3.45 -4.7,3.45 4.7,3.45 4.7,-3.45 -4.7,-3.45
  lines w0.1: -0.5,0 0.5,0 ; 0,-0.5 0,0.5
3D body "SSOP-16_5.3x6.2mm_P0.65mm.step": height 2.1, standoff 0, extent -3.9,-3.1 3.9,3.1

## SSOP-20_7.20x5.30mm [mm] "SSOP, 20-Leads, Body 7.20x5.30mm, Pitch 0.65mm, IPC Medium Density"
height 2
pads (20):
  rrect20% 1.75x0.45 smd: 1(-3.6,2.925) 2(-3.6,2.275) 3(-3.6,1.625) 4(-3.6,0.975) 5(-3.6,0.325) 6(-3.6,-0.325) 7(-3.6,-0.975) 8(-3.6,-1.625) 9(-3.6,-2.275) 10(-3.6,-2.925) 11(3.6,-2.925) 12(3.6,-2.275) 13(3.6,-1.625) 14(3.6,-0.975) 15(3.6,-0.325) 16(3.6,0.325) 17(3.6,0.975) 18(3.6,1.625) 19(3.6,2.275) 20(3.6,2.925)
Top Overlay:
  circle w0.25: c-3.6,3.7 r0.125
  circle w0.6: c-1.4,2.75 r0.3
  lines w0.2: -2.4,-3.75 -2.4,3.75 2.4,3.75 2.4,-3.75 -2.4,-3.75
Mechanical 1:
  circle w0.05: c-1.678,2.628 r0.25
  lines w0.05: -2.575,-3.075 -3.9,-3.075 -3.9,-2.775 -2.575,-2.775 ; -2.575,-2.425 -3.9,-2.425 -3.9,-2.125 -2.575,-2.125 ; -2.575,-1.775 -3.9,-1.775 -3.9,-1.475 -2.575,-1.475 ; -2.575,-1.125 -3.9,-1.125 -3.9,-0.825 -2.575,-0.825 ; -2.575,-0.475 -3.9,-0.475 -3.9,-0.175 -2.575,-0.175 ; -2.575,0.175 -3.9,0.175 -3.9,0.475 -2.575,0.475 ; -2.575,0.825 -3.9,0.825 -3.9,1.125 -2.575,1.125 ; -2.575,1.475 -3.9,1.475 -3.9,1.775 -2.575,1.775 ; -2.575,2.125 -3.9,2.125 -3.9,2.425 -2.575,2.425 ; -2.575,2.775 -3.9,2.775 -3.9,3.075 -2.575,3.075 ; 2.575,-3.075 3.9,-3.075 3.9,-2.775 2.575,-2.775 ; 2.575,-2.425 3.9,-2.425 3.9,-2.125 2.575,-2.125 ; 2.575,-1.775 3.9,-1.775 3.9,-1.475 2.575,-1.475 ; 2.575,-1.125 3.9,-1.125 3.9,-0.825 2.575,-0.825 ; 2.575,-0.475 3.9,-0.475 3.9,-0.175 2.575,-0.175 ; 2.575,0.175 3.9,0.175 3.9,0.475 2.575,0.475 ; 2.575,0.825 3.9,0.825 3.9,1.125 2.575,1.125 ; 2.575,1.475 3.9,1.475 3.9,1.775 2.575,1.775 ; 2.575,2.125 3.9,2.125 3.9,2.425 2.575,2.425 ; 2.575,2.775 3.9,2.775 3.9,3.075 2.575,3.075 ; -2.575,-3.387 -2.575,3.387 -2.438,3.525 2.438,3.525 2.575,3.387 2.575,-3.387 2.438,-3.525 -2.438,-3.525 -2.575,-3.387
Mechanical 15:
  lines w0.05: -4.7,-4 -4.7,4 4.7,4 4.7,-4 -4.7,-4
  lines w0.1: -0.5,0 0.5,0 ; 0,-0.5 0,0.5
3D body "SSOP-20_5.3x7.2mm_P0.65mm.step": height 2.1, standoff 0, extent -3.9,-3.6 3.9,3.6

## SSOP-28_10.20x5.30mm [mm] "SSOP, 28-Leads, Body 10.20x5.30mm, Pitch 0.65mm, IPC Medium Density"
height 2
pads (28):
  rrect20% 1.75x0.45 smd: 1(-3.6,4.225) 2(-3.6,3.575) 3(-3.6,2.925) 4(-3.6,2.275) 5(-3.6,1.625) 6(-3.6,0.975) 7(-3.6,0.325) 8(-3.6,-0.325) 9(-3.6,-0.975) 10(-3.6,-1.625) 11(-3.6,-2.275) 12(-3.6,-2.925) 13(-3.6,-3.575) 14(-3.6,-4.225) 15(3.6,-4.225) 16(3.6,-3.575) 17(3.6,-2.925) 18(3.6,-2.275) 19(3.6,-1.625) 20(3.6,-0.975) 21(3.6,-0.325) 22(3.6,0.325) 23(3.6,0.975) 24(3.6,1.625) 25(3.6,2.275) 26(3.6,2.925) 27(3.6,3.575) 28(3.6,4.225)
Top Overlay:
  circle w0.25: c-3.6,5 r0.125
  circle w0.6: c-1.4,4.25 r0.3
  lines w0.2: -2.4,-5.25 -2.4,5.25 2.4,5.25 2.4,-5.25 -2.4,-5.25
Mechanical 1:
  circle w0.05: c-1.707,4.157 r0.25
  lines w0.05: -2.6,-4.375 -3.9,-4.375 -3.9,-4.075 -2.6,-4.075 ; -2.6,-3.725 -3.9,-3.725 -3.9,-3.425 -2.6,-3.425 ; -2.6,-3.075 -3.9,-3.075 -3.9,-2.775 -2.6,-2.775 ; -2.6,-2.425 -3.9,-2.425 -3.9,-2.125 -2.6,-2.125 ; -2.6,-1.775 -3.9,-1.775 -3.9,-1.475 -2.6,-1.475 ; -2.6,-1.125 -3.9,-1.125 -3.9,-0.825 -2.6,-0.825 ; -2.6,-0.475 -3.9,-0.475 -3.9,-0.175 -2.6,-0.175 ; -2.6,0.175 -3.9,0.175 -3.9,0.475 -2.6,0.475 ; -2.6,0.825 -3.9,0.825 -3.9,1.125 -2.6,1.125 ; -2.6,1.475 -3.9,1.475 -3.9,1.775 -2.6,1.775 ; -2.6,2.125 -3.9,2.125 -3.9,2.425 -2.6,2.425 ; -2.6,2.775 -3.9,2.775 -3.9,3.075 -2.6,3.075 ; -2.6,3.425 -3.9,3.425 -3.9,3.725 -2.6,3.725 ; -2.6,4.075 -3.9,4.075 -3.9,4.375 -2.6,4.375 ; 2.6,-4.375 3.9,-4.375 3.9,-4.075 2.6,-4.075 ; 2.6,-3.725 3.9,-3.725 3.9,-3.425 2.6,-3.425 ; 2.6,-3.075 3.9,-3.075 3.9,-2.775 2.6,-2.775 ; 2.6,-2.425 3.9,-2.425 3.9,-2.125 2.6,-2.125 ; 2.6,-1.775 3.9,-1.775 3.9,-1.475 2.6,-1.475 ; 2.6,-1.125 3.9,-1.125 3.9,-0.825 2.6,-0.825 ; 2.6,-0.475 3.9,-0.475 3.9,-0.175 2.6,-0.175 ; 2.6,0.175 3.9,0.175 3.9,0.475 2.6,0.475 ; 2.6,0.825 3.9,0.825 3.9,1.125 2.6,1.125 ; 2.6,1.475 3.9,1.475 3.9,1.775 2.6,1.775 ; 2.6,2.125 3.9,2.125 3.9,2.425 2.6,2.425 ; 2.6,2.775 3.9,2.775 3.9,3.075 2.6,3.075 ; 2.6,3.425 3.9,3.425 3.9,3.725 2.6,3.725 ; 2.6,4.075 3.9,4.075 3.9,4.375 2.6,4.375 ; -2.6,-4.875 -2.425,-5.05 2.425,-5.05 2.6,-4.875 2.6,4.875 2.425,5.05 -2.425,5.05 -2.6,4.875 -2.6,-4.875
Mechanical 15:
  lines w0.05: -4.7,-5.5 -4.7,5.5 4.7,5.5 4.7,-5.5 -4.7,-5.5
  lines w0.1: -0.5,0 0.5,0 ; 0,-0.5 0,0.5
3D body "SSOP-28_5.3x10.2mm_P0.65mm.step": height 2.1, standoff 0, extent -3.9,-5.1 3.9,5.1